# EAGLE library part UPD23C1000C (library Parts)
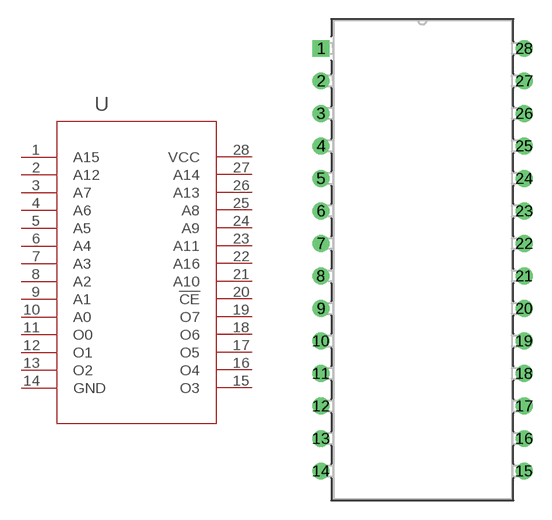
[diagram p6: symbol with the pads of UPD23C1000C; footprint UPD23C1000C]

Designator prefix -

## UPD23C1000C  [UPD23C1000C]
1  A15  pas
2  A12  pas
3  A7  pas
4  A6  pas
5  A5  pas
6  A4  pas
7  A3  pas
8  A2  pas
9  A1  pas
10  A0  pas
11  O0  out
12  O1  out
13  O2  out
14  GND  pwr
15  O3  out
16  O4  out
17  O5  out
18  O6  out
19  O7  out
20  !CE  in
21  A10  pas
22  A16  pas
23  A11  pas
24  A9  pas
25  A8  pas
26  A13  pas
27  A14  pas
28  VCC  pwr

## Footprint UPD23C1000C (pad centres in mm)
drill 0.813 pad 1.321 square: 1 -7.62,16.51
drill 0.813 pad 1.321: 2 -7.62,13.97; 3 -7.62,11.43; 4 -7.62,8.89; 5 -7.62,6.35; 6 -7.62,3.81; 7 -7.62,1.27; 8 -7.62,-1.27; 9 -7.62,-3.81; 10 -7.62,-6.35; 11 -7.62,-8.89; 12 -7.62,-11.43; 13 -7.62,-13.97; 14 -7.62,-16.51; 15 8.255,-16.51; 16 8.255,-13.97; 17 8.255,-11.43; 18 8.255,-8.89; 19 8.255,-6.35; 20 8.255,-3.81; 21 8.255,-1.27; 22 8.255,1.27; 23 8.255,3.81; 24 8.255,6.35; 25 8.255,8.89; 26 8.255,11.43; 27 8.255,13.97; 28 8.255,16.51